# Altium schematic symbol library misc rlc.SchLib: 1 symbol
Pins are listed as number, name and electrical type; pins without a type are passive.

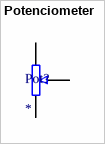
[diagram p0: symbol Potenciometer]

## Potenciometer
designator Pot?
Value: *
footprint 3590  potenciometer (3590 multiturn precise potenciometer)
pins: 1, 2, 3